# Altium schematic symbol library CAP_4.7uF_El.SchLib: 1 symbol
Pins are listed as number, name and electrical type; pins without a type are passive.

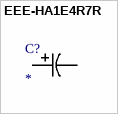
[diagram p0: symbol EEE-HA1E4R7R]

## EEE-HA1E4R7R
designator C?
No Description Available; Mfr_Name: Panasonic
footprint CAP_PAN_EEE_B_PAN
pins: 1, 2